# EAGLE library part ITSYBITSY_RP2040_EDGEPWR (library ItsyBitsy_Expander_v2.0_RP2040)
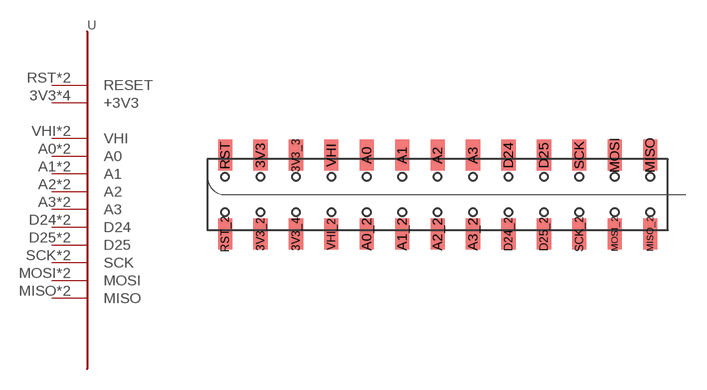
[diagram p7: symbol with the pads of ITSYBITSY_RP2040_SMD_EDGEPWR; footprint ITSYBITSY_RP2040_SMD_EDGEPWR]

Designator prefix -

## ITSYBITSY_RP2040_EDGEPWR  [ITSYBITSY_RP2040_SMD_EDGEPWR]
3V3  +3V3
3V3_2  +3V3
3V3_3  +3V3
3V3_4  +3V3
A0  A0
A0_2  A0
A1  A1
A1_2  A1
A2  A2
A2_2  A2
A3  A3
A3_2  A3
D24  D24
D24_2  D24
D25  D25
D25_2  D25
MISO  MISO
MISO_2  MISO
MOSI  MOSI
MOSI_2  MOSI
RST  RESET
RST_2  RESET
SCK  SCK
SCK_2  SCK
VHI  VHI
VHI_2  VHI

## Footprint ITSYBITSY_RP2040_SMD_EDGEPWR (pad centres in mm)
smd 1.02 x 2.22: 3V3 -13.97,2.83; 3V3_2 -13.97,-2.83; 3V3_3 -11.43,2.83; 3V3_4 -11.43,-2.83; A0 -6.35,2.83; A0_2 -6.35,-2.83; A1 -3.81,2.83; A1_2 -3.81,-2.83; A2 -1.27,2.83; A2_2 -1.27,-2.83; A3 1.27,2.83; A3_2 1.27,-2.83; D24 3.81,2.83; D24_2 3.81,-2.83; D25 6.35,2.83; D25_2 6.35,-2.83; MISO 13.97,2.83; MISO_2 13.97,-2.83; MOSI 11.43,2.83; MOSI_2 11.43,-2.83; RST -16.51,2.83; RST_2 -16.51,-2.83; SCK 8.89,2.83; SCK_2 8.89,-2.83; VHI -8.89,2.83; VHI_2 -8.89,-2.83